# Altium schematic symbol library Schlib1.SchLib: 4 symbols
Pins are listed as number, name and electrical type; pins without a type are passive.

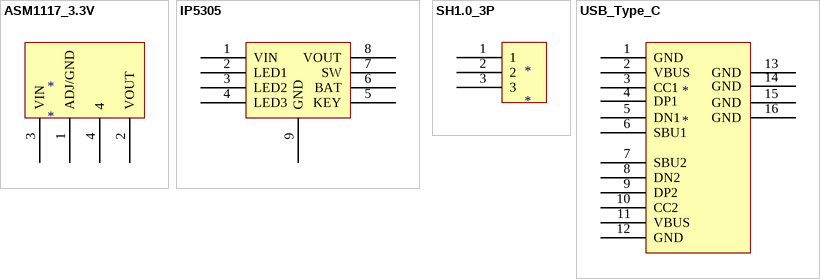
[diagram p0: symbols ASM1117_3.3V to USB_Type_C]

## ASM1117_3.3V
designator *
pins: 1 ADJ/GND, 2 VOUT, 3 VIN, 4

## IP5305
designator *  (value not drawn)
pins: 1 VIN, 2 LED1, 3 LED2, 4 LED3, 5 KEY, 6 BAT, 7 SW, 8 VOUT, 9 GND

## SH1.0_3P
designator *
pins: 1, 2, 3

## USB_Type_C
designator *
pins: 1 GND, 2 VBUS, 3 CC1, 4 DP1, 5 DN1, 6 SBU1, 7 SBU2, 8 DN2, 9 DP2, 10 CC2, 11 VBUS, 12 GND, 13 GND, 14 GND, 15 GND, 16 GND